# Altium schematic symbol library DelayLines.SchLib: 8 symbols
Pins are listed as number, name and electrical type; pins without a type are passive.

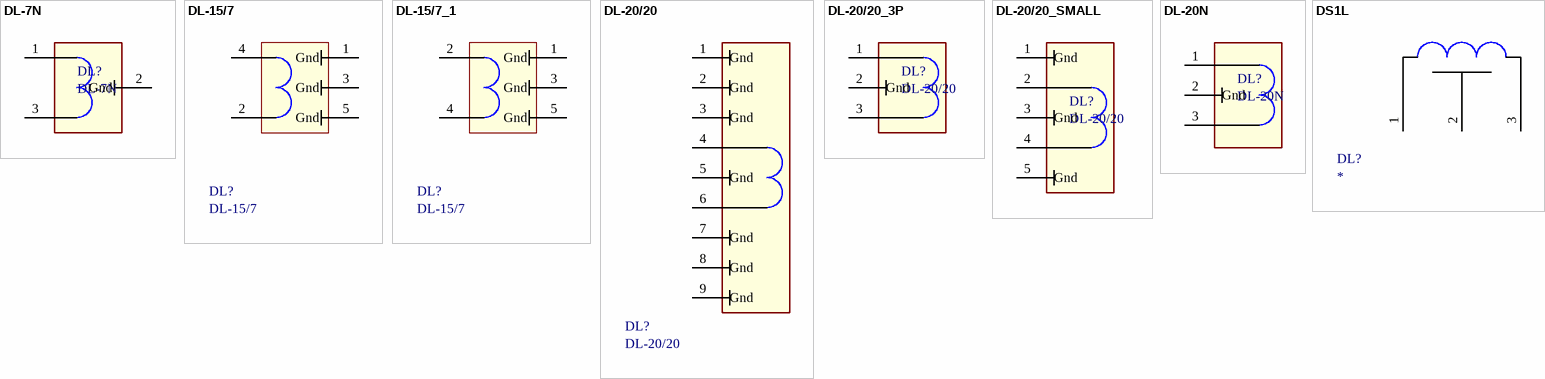
[diagram p0: symbols DL-7N to DS1L]

## DL-7N
designator DL?
footprint DL-20N
pins: 1, 2 Gnd, 3

## DL-15/7
designator DL?
footprint DL-15/7
pins: 1 Gnd, 2, 3 Gnd, 4, 5 Gnd

## DL-15/7_1
designator DL?, comment DL-15/7
footprint DL-15/7
pins: 1 Gnd, 2, 3 Gnd, 4, 5 Gnd

## DL-20/20
designator DL?
footprint ЛЗ-20/20
pins: 1 Gnd, 2 Gnd, 3 Gnd, 4, 5 Gnd, 6, 7 Gnd, 8 Gnd, 9 Gnd

## DL-20/20_3P
designator DL?, comment DL-20/20
footprint DL-20N-3P
pins: 1 in, 2 Gnd, 3

## DL-20/20_SMALL
designator DL?, comment DL-20/20
footprint DL-SMALL
pins: 1 Gnd, 2, 3 Gnd, 4, 5 Gnd

## DL-20N
designator DL?
footprint DL-20N
pins: 1, 2 Gnd, 3

## DS1L
designator DL?
footprint DS1L
pins: 1, 2, 3